# Altium integrated library Diodes - TVS.IntLib: 5379 symbols (part 22 of 122)
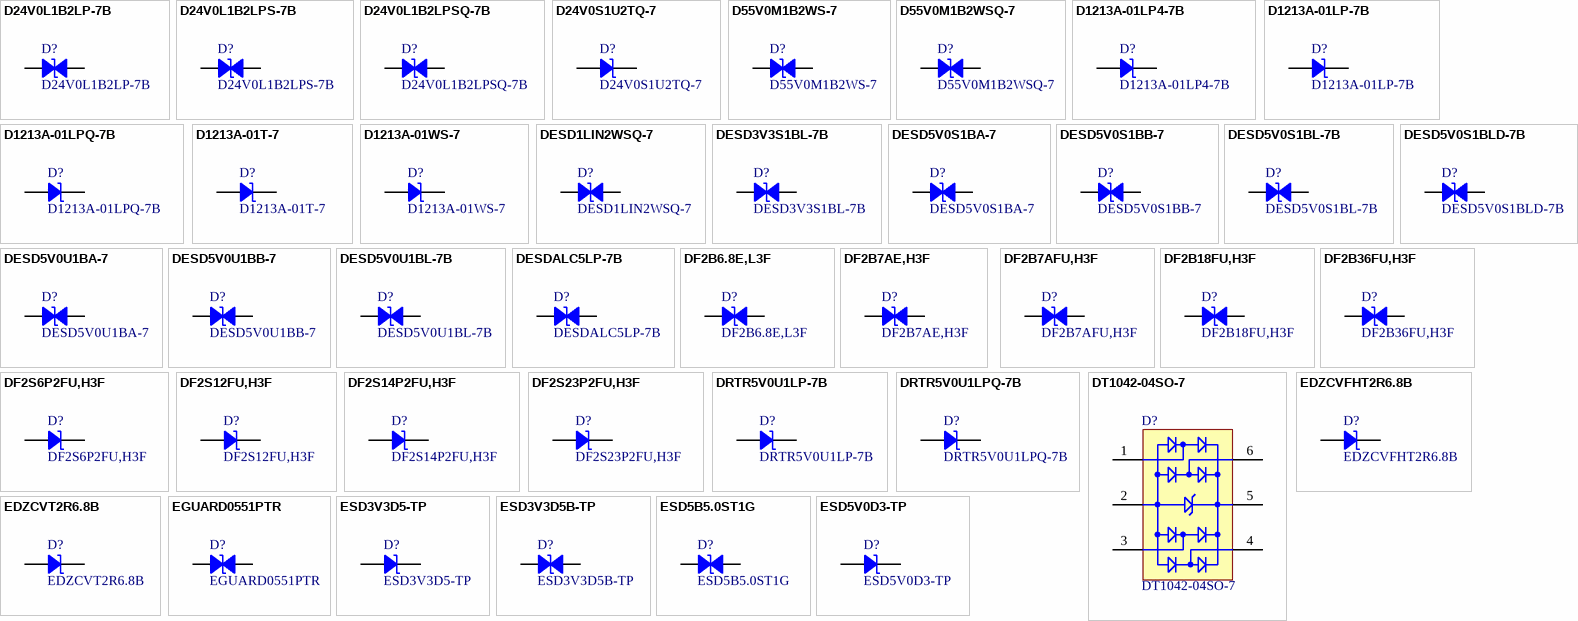
[diagram p155: symbols D24V0L1B2LP-7B to ESD5V0D3-TP]

## D55V0M1B2WSQ-7
designator D?
TVS DIODE PP SOD323; Manufacturer: Diodes Incorporated; Bidirectional Channels: 1; Capacitance @ Frequency: 14pF @ 1MHz; Current - Peak Pulse (10/1000µs): 2A (8/20µs); Power Line Protection: No; Power - Peak Pulse: 200W; Type: Zener; Voltage - Breakdown (Min): 57V; Voltage - Clamping (Max) @ Ipp: 100V; Voltage - Reverse Standoff (Typ): 55V (Max); Part Number: D55V0M1B2WSQ-7; Applications: Automotive, USB; ComponentLink1Description: Datasheet; ComponentLink1URL: https://www.diodes.com/assets/Datasheets/D55V0M1B2WSQ.pdf; ComponentLink2Description: DigiKey Link; ComponentLink2URL: http://digikey.com/product-detail/en/diodes-incorporated/D55V0M1B2WSQ-7/D55V0M1B2WSQ-7DICT-ND/9089791; LastUpdated: 9/2/2020 1:28:29 AM; Lifecycle Status: Active; Minimum Order: 1; Mounting Type: Surface Mount; Operating Temperature: -65°C ~ 150°C (TJ); Package / Case: SC-76, SOD-323; Packaging: TapeAndReel; PartId: 9984; Part Status: Active; Price: 0.11; Series: Automotive, AEC-Q101; Supplier 1: DigiKey; Supplier Part Number 1: D55V0M1B2WSQ-7DICT-ND; Supplier Device Package: SOD-323
footprint SOD323
pins: 1, 2

## D1213A-01LP4-7B
designator D?
TVS DIODE 3.3V 10V DFN1006-2; Manufacturer: Diodes Incorporated; Current - Peak Pulse (10/1000µs): 1A (8/20µs); Power Line Protection: No; Type: Zener; Unidirectional Channels: 1; Voltage - Breakdown (Min): 6V; Voltage - Clamping (Max) @ Ipp: 10V (Typ); Voltage - Reverse Standoff (Typ): 3.3V (Max); Part Number: D1213A-01LP4-7B; Applications: Automotive; ComponentLink1Description: Datasheet; ComponentLink1URL: https://www.diodes.com/assets/Datasheets/D1213A-01LP4.pdf; ComponentLink2Description: DigiKey Link; ComponentLink2URL: http://digikey.com/product-detail/en/diodes-incorporated/D1213A-01LP4-7B/D1213A-01LP4-7BDICT-ND/3340429; Device Package: 0402 (1006 Metric); LastUpdated: 9/2/2020 1:28:45 AM; Lifecycle Status: Active; Minimum Order: 1; Mounting Type: Surface Mount; Operating Temperature: -65°C ~ 150°C (TJ); Package / Case: 0402 (1006 Metric); Packaging: TapeAndReel; PartId: 10369; Part Status: Active; Price: 0.05; Series: Automotive, AEC-Q101; Supplier 1: DigiKey; Supplier Part Number 1: D1213A-01LP4-7BDICT-ND; Supplier Device Package: X2-DFN1006-2
footprint 0402
pins: 1, 2

## D1213A-01LP-7B
designator D?
TVS DIODE 3.3V 10V DFN1006-2; Manufacturer: Diodes Incorporated; Current - Peak Pulse (10/1000µs): 1A (8/20µs); Power Line Protection: No; Type: Zener; Unidirectional Channels: 1; Voltage - Breakdown (Min): 6V; Voltage - Clamping (Max) @ Ipp: 10V (Typ); Voltage - Reverse Standoff (Typ): 3.3V (Max); Part Number: D1213A-01LP-7B; Applications: Automotive; ComponentLink1Description: Datasheet; ComponentLink1URL: https://www.diodes.com/assets/Datasheets/D1213A-01LP.pdf; ComponentLink2Description: DigiKey Link; ComponentLink2URL: http://digikey.com/product-detail/en/diodes-incorporated/D1213A-01LP-7B/D1213A-01LP-7BDICT-ND/3340425; Device Package: 0402 (1006 Metric); LastUpdated: 9/2/2020 1:28:45 AM; Lifecycle Status: Active; Minimum Order: 1; Mounting Type: Surface Mount; Operating Temperature: -65°C ~ 150°C (TJ); Package / Case: 0402 (1006 Metric); Packaging: TapeAndReel; PartId: 10383; Part Status: Active; Price: 0.05; Series: Automotive, AEC-Q101; Supplier 1: DigiKey; Supplier Part Number 1: D1213A-01LP-7BDICT-ND; Supplier Device Package: X1-DFN1006-2
footprint 0402
pins: 1, 2

## D1213A-01LPQ-7B
designator D?
TVS DIODE 3.3V 10V DFN1006-2; Manufacturer: Diodes Incorporated; Capacitance @ Frequency: 0.85pF @ 1MHz; Current - Peak Pulse (10/1000µs): 5A (8/20µs); Power Line Protection: No; Type: Steering (Rail to Rail); Unidirectional Channels: 1; Voltage - Breakdown (Min): 6V; Voltage - Reverse Standoff (Typ): 3.3V (Max); Part Number: D1213A-01LPQ-7B; Applications: Automotive; ComponentLink1Description: Datasheet; ComponentLink1URL: https://www.diodes.com/assets/Datasheets/D1213A-01LPQ.pdf; ComponentLink2Description: DigiKey Link; ComponentLink2URL: http://digikey.com/product-detail/en/diodes-incorporated/D1213A-01LPQ-7B/31-D1213A-01LPQ-7BCT-ND/11643316; LastUpdated: 8/30/2020 9:08:09 PM; Lifecycle Status: Active; Minimum Order: 1; Mounting Type: Surface Mount; Operating Temperature: -55°C ~ 150°C (TJ); Package / Case: 0402 (1006 Metric); Packaging: TapeAndReel; PartId: 11494; Price: 0.07; Series: Automotive, AEC-Q101; Supplier 1: DigiKey; Supplier Part Number 1: 31-D1213A-01LPQ-7BCT-ND; Supplier Device Package: X1-DFN1006-2; Voltage - Clamping (Max) @ Ipp: 10V
footprint 0402
pins: 1, 2

## D1213A-01T-7
designator D?
TVS DIODE 3.3V 10V SOD523; Manufacturer: Diodes Incorporated; Current - Peak Pulse (10/1000µs): 1A (8/20µs); Power Line Protection: No; Type: Zener; Unidirectional Channels: 1; Voltage - Breakdown (Min): 6V; Voltage - Clamping (Max) @ Ipp: 10V (Typ); Voltage - Reverse Standoff (Typ): 3.3V (Max); Part Number: D1213A-01T-7; Applications: Automotive; ComponentLink1Description: Datasheet; ComponentLink1URL: https://www.diodes.com/assets/Datasheets/D1213A-01T.pdf; ComponentLink2Description: DigiKey Link; ComponentLink2URL: http://digikey.com/product-detail/en/diodes-incorporated/D1213A-01T-7/D1213A-01T-7DICT-ND/3340434; LastUpdated: 9/2/2020 1:28:24 AM; Lifecycle Status: Active; Minimum Order: 1; Mounting Type: Surface Mount; Operating Temperature: -65°C ~ 150°C (TJ); Package / Case: SC-79, SOD-523; Packaging: TapeAndReel; PartId: 9777; Part Status: Active; Price: 0.07; Series: Automotive, AEC-Q101; Supplier 1: DigiKey; Supplier Part Number 1: D1213A-01T-7DICT-ND; Supplier Device Package: SOD-523
footprint SOD523F
pins: 1, 2

## D1213A-01WS-7
designator D?
TVS DIODE 3.3V 10V SOD323; Manufacturer: Diodes Incorporated; Current - Peak Pulse (10/1000µs): 1A (8/20µs); Power Line Protection: No; Type: Zener; Unidirectional Channels: 1; Voltage - Breakdown (Min): 6V; Voltage - Clamping (Max) @ Ipp: 10V (Typ); Voltage - Reverse Standoff (Typ): 3.3V (Max); Part Number: D1213A-01WS-7; Applications: Automotive; ComponentLink1Description: Datasheet; ComponentLink1URL: https://www.diodes.com/assets/Datasheets/D1213A-01WS.pdf; ComponentLink2Description: DigiKey Link; ComponentLink2URL: http://digikey.com/product-detail/en/diodes-incorporated/D1213A-01WS-7/D1213A-01WS-7DICT-ND/3340438; LastUpdated: 9/2/2020 1:28:27 AM; Lifecycle Status: Active; Minimum Order: 1; Mounting Type: Surface Mount; Operating Temperature: -65°C ~ 150°C (TJ); Package / Case: SC-76, SOD-323; Packaging: TapeAndReel; PartId: 9879; Part Status: Active; Price: 0.06; Series: Automotive, AEC-Q101; Supplier 1: DigiKey; Supplier Part Number 1: D1213A-01WS-7DICT-ND; Supplier Device Package: SOD-323
footprint SOD323
pins: 1, 2

## DESD1LIN2WSQ-7
designator D?
TVS DIODE 24V 50V SOD323; Manufacturer: Diodes Incorporated; Bidirectional Channels: 1; Capacitance @ Frequency: 13pF @ 1MHz; Current - Peak Pulse (10/1000µs): 3A (8/20µs); Power Line Protection: No; Power - Peak Pulse: 160W; Type: Zener; Voltage - Breakdown (Min): 25.4V; Voltage - Reverse Standoff (Typ): 24V (Max); Part Number: DESD1LIN2WSQ-7; Applications: Automotive; ComponentLink1Description: Datasheet; ComponentLink1URL: https://www.diodes.com/assets/Datasheets/DESD1LIN2WSQ.pdf; ComponentLink2Description: DigiKey Link; ComponentLink2URL: http://digikey.com/product-detail/en/diodes-incorporated/DESD1LIN2WSQ-7/DESD1LIN2WSQ-7DICT-ND/5080362; LastUpdated: 8/30/2020 9:07:52 PM; Lifecycle Status: Active; Minimum Order: 1; Mounting Type: Surface Mount; Operating Temperature: -65°C ~ 150°C (TJ); Package / Case: SC-76, SOD-323; Packaging: CutTape; PartId: 11492; Price: 0.45; Series: Automotive, AEC-Q101; Supplier 1: DigiKey; Supplier Part Number 1: DESD1LIN2WSQ-7DICT-ND; Supplier Device Package: SOD-323; Voltage - Clamping (Max) @ Ipp: 50V
footprint SOD323
pins: 1, 2

## DESD3V3S1BL-7B
designator D?
TVS DIODE 3.3V 7V DFN1006-2; Manufacturer: Diodes Incorporated; Bidirectional Channels: 1; Capacitance @ Frequency: 10pF @ 1MHz; Current - Peak Pulse (10/1000µs): 5A (8/20µs); Power Line Protection: No; Power - Peak Pulse: 35W; Type: Zener; Voltage - Breakdown (Min): 3.8V; Voltage - Reverse Standoff (Typ): 3.3V (Max); Part Number: DESD3V3S1BL-7B; Applications: General Purpose; ComponentLink1Description: Datasheet; ComponentLink1URL: https://www.diodes.com/assets/Datasheets/DESD3V3S1BL.pdf; ComponentLink2Description: DigiKey Link; ComponentLink2URL: http://digikey.com/product-detail/en/diodes-incorporated/DESD3V3S1BL-7B/DESD3V3S1BL-7BDICT-ND/4567799; Device Package: 0402 (1006 Metric); LastUpdated: 9/2/2020 1:28:49 AM; Lifecycle Status: Active; Minimum Order: 1; Mounting Type: Surface Mount; Operating Temperature: -65°C ~ 150°C (TJ); Package / Case: 0402 (1006 Metric); Packaging: TapeAndReel; PartId: 10451; Part Status: Active; Price: 0.04; Series: -; Supplier 1: DigiKey; Supplier Part Number 1: DESD3V3S1BL-7BDICT-ND; Supplier Device Package: X1-DFN1006-2; Voltage - Clamping (Max) @ Ipp: 7V
footprint 0402
pins: 1, 2

## DESD5V0S1BA-7
designator D?
TVS DIODE 5V 14V SOD323; Manufacturer: Diodes Incorporated; Bidirectional Channels: 1; Capacitance @ Frequency: 35pF @ 1MHz; Current - Peak Pulse (10/1000µs): 12A (8/20µs); Power Line Protection: No; Power - Peak Pulse: 130W; Type: Zener; Voltage - Breakdown (Min): 5.5V; Voltage - Reverse Standoff (Typ): 5V (Max); Part Number: DESD5V0S1BA-7; Applications: General Purpose; ComponentLink1Description: Datasheet; ComponentLink1URL: https://www.diodes.com/assets/Datasheets/ds31275.pdf; ComponentLink2Description: DigiKey Link; ComponentLink2URL: http://digikey.com/product-detail/en/diodes-incorporated/DESD5V0S1BA-7/DESD5V0S1BA-7DICT-ND/3451525; LastUpdated: 9/2/2020 1:28:29 AM; Lifecycle Status: Active; Minimum Order: 1; Mounting Type: Surface Mount; Operating Temperature: -65°C ~ 150°C (TJ); Package / Case: SC-76, SOD-323; Packaging: TapeAndReel; PartId: 9938; Part Status: Active; Price: 0.07; Series: -; Supplier 1: DigiKey; Supplier Part Number 1: DESD5V0S1BA-7DICT-ND; Supplier Device Package: SOD-323; Voltage - Clamping (Max) @ Ipp: 14V
footprint SOD323
pins: 1, 2

## DESD5V0S1BB-7
designator D?
TVS DIODE 5V 14V SOD523; Manufacturer: Diodes Incorporated; Bidirectional Channels: 1; Capacitance @ Frequency: 35pF @ 1MHz; Current - Peak Pulse (10/1000µs): 12A (8/20µs); Power Line Protection: No; Power - Peak Pulse: 130W; Type: Zener; Voltage - Breakdown (Min): 5.5V; Voltage - Reverse Standoff (Typ): 5V (Max); Part Number: DESD5V0S1BB-7; Applications: General Purpose; ComponentLink1Description: Datasheet; ComponentLink1URL: https://www.diodes.com/assets/Datasheets/DESD5V0S1BB.pdf; ComponentLink2Description: DigiKey Link; ComponentLink2URL: http://digikey.com/product-detail/en/diodes-incorporated/DESD5V0S1BB-7/31-DESD5V0S1BB-7DKR-ND/11643302; LastUpdated: 8/30/2020 9:07:49 PM; Lifecycle Status: Active; Minimum Order: 0; Mounting Type: Surface Mount; Package / Case: SC-79, SOD-523; PartId: 11488; Price: 0; Supplier 1: DigiKey; Supplier Part Number 1: 31-DESD5V0S1BB-7DKR-ND; Supplier Device Package: SOD-523; Voltage - Clamping (Max) @ Ipp: 14V
footprint SOD523F
pins: 1, 2

## DESD5V0S1BL-7B
designator D?
TVS DIODE 5V 14V DFN1006-2; Manufacturer: Diodes Incorporated; Bidirectional Channels: 1; Capacitance @ Frequency: 35pF @ 1MHz; Current - Peak Pulse (10/1000µs): 12A (8/20µs); Power Line Protection: No; Power - Peak Pulse: 130W; Type: Zener; Voltage - Breakdown (Min): 5.5V; Voltage - Reverse Standoff (Typ): 5V (Max); Part Number: DESD5V0S1BL-7B; Applications: General Purpose; ComponentLink1Description: Datasheet; ComponentLink1URL: https://www.diodes.com/assets/Datasheets/ds31434.pdf; ComponentLink2Description: DigiKey Link; ComponentLink2URL: http://digikey.com/product-detail/en/diodes-incorporated/DESD5V0S1BL-7B/DESD5V0S1BL-7BDICT-ND/3451534; Device Package: 0402 (1006 Metric); LastUpdated: 9/2/2020 1:28:49 AM; Lifecycle Status: Active; Minimum Order: 1; Mounting Type: Surface Mount; Operating Temperature: -65°C ~ 150°C (TJ); Package / Case: 0402 (1006 Metric); Packaging: TapeAndReel; PartId: 10469; Part Status: Active; Price: 0.05; Series: -; Supplier 1: DigiKey; Supplier Part Number 1: DESD5V0S1BL-7BDICT-ND; Supplier Device Package: X1-DFN1006-2; Voltage - Clamping (Max) @ Ipp: 14V
footprint 0402
pins: 1, 2

## DESD5V0S1BLD-7B
designator D?
TVS DIODE 5V 14V DFN1006-2; Manufacturer: Diodes Incorporated; Bidirectional Channels: 1; Capacitance @ Frequency: 35pF @ 1MHz; Current - Peak Pulse (10/1000µs): 12A (8/20µs); Power Line Protection: No; Power - Peak Pulse: 130W; Type: Zener; Voltage - Breakdown (Min): 5.5V; Voltage - Reverse Standoff (Typ): 5V (Max); Part Number: DESD5V0S1BLD-7B; Applications: General Purpose; ComponentLink1Description: Datasheet; ComponentLink1URL: https://www.diodes.com/assets/Datasheets/DESD5V0S1BLD.pdf; ComponentLink2Description: DigiKey Link; ComponentLink2URL: http://digikey.com/product-detail/en/diodes-incorporated/DESD5V0S1BLD-7B/DESD5V0S1BLD-7BDICT-ND/3451541; Device Package: 0402 (1006 Metric); LastUpdated: 9/2/2020 1:28:49 AM; Lifecycle Status: Active; Minimum Order: 1; Mounting Type: Surface Mount; Operating Temperature: -65°C ~ 150°C (TJ); Package / Case: 0402 (1006 Metric); Packaging: TapeAndReel; PartId: 10464; Part Status: Active; Price: 0.06; Series: -; Supplier 1: DigiKey; Supplier Part Number 1: DESD5V0S1BLD-7BDICT-ND; Supplier Device Package: X2-DFN1006-2; Voltage - Clamping (Max) @ Ipp: 14V
footprint 0402
pins: 1, 2

## DESD5V0U1BA-7
designator D?
TVS DIODE 5V 7.2V SOD323; Manufacturer: Diodes Incorporated; Bidirectional Channels: 1; Capacitance @ Frequency: 2.9pF @ 1MHz; Current - Peak Pulse (10/1000µs): 3A (8/20µs); Power Line Protection: No; Type: Zener; Voltage - Breakdown (Min): 5.5V; Voltage - Clamping (Max) @ Ipp: 7.2V (Typ); Voltage - Reverse Standoff (Typ): 5V (Max); Part Number: DESD5V0U1BA-7; Applications: General Purpose; ComponentLink1Description: Datasheet; ComponentLink1URL: https://www.diodes.com/assets/Datasheets/DESD5V0U1BA.pdf; ComponentLink2Description: DigiKey Link; ComponentLink2URL: http://digikey.com/product-detail/en/diodes-incorporated/DESD5V0U1BA-7/DESD5V0U1BA-7DICT-ND/5371911; LastUpdated: 9/2/2020 1:28:29 AM; Lifecycle Status: Active; Minimum Order: 1; Mounting Type: Surface Mount; Operating Temperature: -65°C ~ 150°C (TJ); Package / Case: SC-76, SOD-323; Packaging: TapeAndReel; PartId: 9987; Part Status: Active; Price: 0.05; Series: -; Supplier 1: DigiKey; Supplier Part Number 1: DESD5V0U1BA-7DICT-ND; Supplier Device Package: SOD-323
footprint SOD323
pins: 1, 2

## DESD5V0U1BB-7
designator D?
TVS DIODE 5V 7.2V SOD523; Manufacturer: Diodes Incorporated; Bidirectional Channels: 1; Capacitance @ Frequency: 2.9pF @ 1MHz; Current - Peak Pulse (10/1000µs): 3A (8/20µs); Power Line Protection: No; Type: Zener; Voltage - Breakdown (Min): 5.5V; Voltage - Clamping (Max) @ Ipp: 7.2V (Typ); Voltage - Reverse Standoff (Typ): 5V (Max); Part Number: DESD5V0U1BB-7; Applications: General Purpose; ComponentLink1Description: Datasheet; ComponentLink1URL: https://www.diodes.com/assets/Datasheets/DESD5V0U1BB.pdf; ComponentLink2Description: DigiKey Link; ComponentLink2URL: http://digikey.com/product-detail/en/diodes-incorporated/DESD5V0U1BB-7/31-DESD5V0U1BB-7CT-ND/11643298; LastUpdated: 8/30/2020 9:07:49 PM; Lifecycle Status: Active; Minimum Order: 1; Mounting Type: Surface Mount; Operating Temperature: -65°C ~ 150°C (TJ); Package / Case: SC-79, SOD-523; Packaging: CutTape; PartId: 11489; Price: 0.25; Supplier 1: DigiKey; Supplier Part Number 1: 31-DESD5V0U1BB-7CT-ND; Supplier Device Package: SOD-523
footprint SOD523F
pins: 1, 2

## DESD5V0U1BL-7B
designator D?
TVS DIODE 5V 7.2V DFN1006-2; Manufacturer: Diodes Incorporated; Bidirectional Channels: 1; Capacitance @ Frequency: 2.9pF @ 1MHz; Current - Peak Pulse (10/1000µs): 3A (8/20µs); Power Line Protection: No; Type: Zener; Voltage - Breakdown (Min): 5.5V; Voltage - Clamping (Max) @ Ipp: 7.2V (Typ); Voltage - Reverse Standoff (Typ): 5V (Max); Part Number: DESD5V0U1BL-7B; Applications: General Purpose; ComponentLink1Description: Datasheet; ComponentLink1URL: https://www.diodes.com/assets/Datasheets/DESD5V0U1BL.pdf; ComponentLink2Description: DigiKey Link; ComponentLink2URL: http://digikey.com/product-detail/en/diodes-incorporated/DESD5V0U1BL-7B/31-DESD5V0U1BL-7BCT-ND/11643328; LastUpdated: 8/30/2020 9:08:11 PM; Lifecycle Status: Active; Minimum Order: 1; Mounting Type: Surface Mount; Operating Temperature: -65°C ~ 150°C (TJ); Package / Case: 0402 (1006 Metric); Packaging: CutTape; PartId: 11498; Price: 0.25; Supplier 1: DigiKey; Supplier Part Number 1: 31-DESD5V0U1BL-7BCT-ND; Supplier Device Package: X1-DFN1006-2
footprint 0402
pins: 1, 2

## DESDALC5LP-7B
designator D?
TVS DIODE 3V 16.7V DFN1006-2; Manufacturer: Diodes Incorporated; Bidirectional Channels: 1; Capacitance @ Frequency: 26pF @ 1MHz; Current - Peak Pulse (10/1000µs): 9A (8/20µs); Power Line Protection: No; Power - Peak Pulse: 150W; Type: Zener; Voltage - Breakdown (Min): 5.8V; Part Number: DESDALC5LP-7B; Applications: General Purpose; ComponentLink1Description: Datasheet; ComponentLink1URL: https://www.diodes.com/assets/Datasheets/DESDALC5LP.pdf; ComponentLink2Description: DigiKey Link; ComponentLink2URL: http://digikey.com/product-detail/en/diodes-incorporated/DESDALC5LP-7B/DESDALC5LP-7BDICT-ND/4878280; Device Package: 0402 (1006 Metric); LastUpdated: 9/2/2020 1:28:48 AM; Lifecycle Status: Active; Minimum Order: 1; Mounting Type: Surface Mount; Operating Temperature: -65°C ~ 150°C (TJ); Package / Case: 0402 (1006 Metric); Packaging: TapeAndReel; PartId: 10426; Part Status: Active; Price: 0.04; Series: -; Supplier 1: DigiKey; Supplier Part Number 1: DESDALC5LP-7BDICT-ND; Supplier Device Package: X1-DFN1006-2; Voltage - Clamping (Max) @ Ipp: 16.7V; Voltage - Reverse Standoff (Typ): 3V
footprint 0402
pins: 1, 2

## DF2B6.8E,L3F
designator D?
TVS DIODE 5VWM ESC; Manufacturer: Toshiba Semiconductor and Storage; Bidirectional Channels: 1; Capacitance @ Frequency: 15pF @ 1MHz; Power Line Protection: No; Type: Zener; Voltage - Breakdown (Min): 5.8V; Voltage - Reverse Standoff (Typ): 5V (Max); Part Number: DF2B6.8E,L3F; Applications: General Purpose; ComponentLink1Description: Datasheet; ComponentLink1URL: https://toshiba.semicon-storage.com/info/docget.jsp?did=4669&prodName=DF2B6.8E; ComponentLink2Description: DigiKey Link; ComponentLink2URL: http://digikey.com/product-detail/en/toshiba-semiconductor-and-storage/DF2B6.8EL3F/DF2B6.8EL3FCT-ND/4780939; LastUpdated: 9/2/2020 1:28:25 AM; Lifecycle Status: Active; Minimum Order: 1; Mounting Type: Surface Mount; Package / Case: SC-79, SOD-523; Packaging: TapeAndReel; PartId: 9834; Part Status: Active; Price: 0.03; Series: -; Supplier 1: DigiKey; Supplier Part Number 1: DF2B6.8EL3FCT-ND; Supplier Device Package: ESC
footprint SOD523F
pins: 1, 2

## DF2B7AE,H3F
designator D?
TVS DIODE 5.5V 20V ESC; Manufacturer: Toshiba Semiconductor and Storage; Bidirectional Channels: 1; Capacitance @ Frequency: 8.5pF @ 1MHz; Current - Peak Pulse (10/1000µs): 4A (8/20µs); Power Line Protection: No; Power - Peak Pulse: 80W; Type: Zener; Voltage - Breakdown (Min): 5.8V; Voltage - Reverse Standoff (Typ): 5.5V (Max); Part Number: DF2B7AE,H3F; ComponentLink1Description: Datasheet; ComponentLink1URL: https://toshiba.semicon-storage.com/info/docget.jsp?did=55583&prodName=DF2B7AE; ComponentLink2Description: DigiKey Link; ComponentLink2URL: http://digikey.com/product-detail/en/toshiba-semiconductor-and-storage/DF2B7AEH3F/DF2B7AEH3FCT-ND/7394083; LastUpdated: 9/2/2020 1:28:25 AM; Lifecycle Status: Active; Minimum Order: 1; Mounting Type: Surface Mount; Operating Temperature: 150°C (TJ); Package / Case: SC-79, SOD-523; Packaging: TapeAndReel; PartId: 9812; Part Status: Active; Price: 0.04; Series: -; Supplier 1: DigiKey; Supplier Part Number 1: DF2B7AEH3FCT-ND; Supplier Device Package: ESC; Voltage - Clamping (Max) @ Ipp: 20V
footprint SOD523F
pins: 1, 2

## DF2B7AFU,H3F
designator D?
BIDIRECTIONAL ESD DIODE VRWM=+/-; Manufacturer: Toshiba Semiconductor and Storage; Bidirectional Channels: 1; Capacitance @ Frequency: 8.5pF @ 1MHz; Current - Peak Pulse (10/1000µs): 4A (8/20µs); Power Line Protection: No; Power - Peak Pulse: 80W; Type: Zener; Voltage - Breakdown (Min): 5.8V; Voltage - Clamping (Max) @ Ipp: 20V; Voltage - Reverse Standoff (Typ): 5.5V (Max); Part Number: DF2B7AFU,H3F; Applications: General Purpose; ComponentLink1Description: Datasheet; ComponentLink1URL: https://toshiba.semicon-storage.com/info/docget.jsp?did=55588&prodName=DF2B7AFU; ComponentLink2Description: DigiKey Link; ComponentLink2URL: http://digikey.com/product-detail/en/toshiba-semiconductor-and-storage/DF2B7AFUH3F/DF2B7AFUH3FCT-ND/10259959; LastUpdated: 9/2/2020 1:28:29 AM; Lifecycle Status: Active; Minimum Order: 1; Mounting Type: Surface Mount; Operating Temperature: 150°C (TJ); Package / Case: SC-76, SOD-323; Packaging: TapeAndReel; PartId: 9929; Part Status: Active; Price: 0.04; Series: -; Supplier 1: DigiKey; Supplier Part Number 1: DF2B7AFUH3FCT-ND; Supplier Device Package: USC
footprint SOD323
pins: 1, 2

## DF2B18FU,H3F
designator D?
TVS DIODE 12V 33V USC; Manufacturer: Toshiba Semiconductor and Storage; Bidirectional Channels: 1; Capacitance @ Frequency: 9pF @ 1MHz; Current - Peak Pulse (10/1000µs): 2.5A (8/20µs); Power Line Protection: No; Power - Peak Pulse: 80W; Type: Zener; Voltage - Breakdown (Min): 16.2V; Part Number: DF2B18FU,H3F; Applications: Automotive; ComponentLink1Description: Datasheet; ComponentLink1URL: https://toshiba.semicon-storage.com/info/docget.jsp?did=29926&prodName=DF2B18FU; ComponentLink2Description: DigiKey Link; ComponentLink2URL: http://digikey.com/product-detail/en/toshiba-semiconductor-and-storage/DF2B18FUH3F/DF2B18FUH3FCT-ND/5810238; LastUpdated: 9/2/2020 1:28:29 AM; Lifecycle Status: Active; Minimum Order: 1; Mounting Type: Surface Mount; Package / Case: SC-76, SOD-323; Packaging: TapeAndReel; PartId: 9964; Part Status: Active; Price: 0.06; Series: -; Supplier 1: DigiKey; Supplier Part Number 1: DF2B18FUH3FCT-ND; Supplier Device Package: USC; Voltage - Clamping (Max) @ Ipp: 33V; Voltage - Reverse Standoff (Typ): 12V
footprint SOD323
pins: 1, 2

## DF2B36FU,H3F
designator D?
TVS DIODE 28V 40V USC; Manufacturer: Toshiba Semiconductor and Storage; Bidirectional Channels: 1; Capacitance @ Frequency: 6.5pF @ 1MHz; Current - Peak Pulse (10/1000µs): 1A (8/20µs); Power Line Protection: No; Power - Peak Pulse: 150W; Type: Zener; Voltage - Breakdown (Min): 32V; Part Number: DF2B36FU,H3F; Applications: Automotive; ComponentLink1Description: Datasheet; ComponentLink1URL: https://toshiba.semicon-storage.com/info/docget.jsp?did=36248&prodName=DF2B36FU; ComponentLink2Description: DigiKey Link; ComponentLink2URL: http://digikey.com/product-detail/en/toshiba-semiconductor-and-storage/DF2B36FUH3F/DF2B36FUH3FCT-ND/5977739; LastUpdated: 9/2/2020 1:28:29 AM; Lifecycle Status: Active; Minimum Order: 1; Mounting Type: Surface Mount; Package / Case: SC-76, SOD-323; Packaging: TapeAndReel; PartId: 9928; Part Status: Active; Price: 0.06; Series: -; Supplier 1: DigiKey; Supplier Part Number 1: DF2B36FUH3FCT-ND; Supplier Device Package: USC; Voltage - Clamping (Max) @ Ipp: 40V; Voltage - Reverse Standoff (Typ): 28V
footprint SOD323
pins: 1, 2

## DF2S6P2FU,H3F
designator D?
UNI-DIRECTIONAL ESD PROTECTION D; Manufacturer: Toshiba Semiconductor and Storage; Capacitance @ Frequency: 600pF @ 1MHz; Current - Peak Pulse (10/1000µs): 80A (8/20µs); Power Line Protection: No; Power - Peak Pulse: 1900W (1.9kW); Type: Zener; Unidirectional Channels: 1; Voltage - Breakdown (Min): 5.6V; Voltage - Clamping (Max) @ Ipp: 23.7V; Voltage - Reverse Standoff (Typ): 5.5V (Max); Part Number: DF2S6P2FU,H3F; Applications: General Purpose; ComponentLink1Description: Datasheet; ComponentLink1URL: https://toshiba.semicon-storage.com/info/docget.jsp?did=59087&prodName=DF2S6P2FU; ComponentLink2Description: DigiKey Link; ComponentLink2URL: http://digikey.com/product-detail/en/toshiba-semiconductor-and-storage/DF2S6P2FUH3F/DF2S6P2FUH3FCT-ND/10131125; LastUpdated: 9/2/2020 1:28:26 AM; Lifecycle Status: Active; Minimum Order: 1; Mounting Type: Surface Mount; Operating Temperature: 150°C (TJ); Package / Case: SC-76, SOD-323; Packaging: TapeAndReel; PartId: 9848; Part Status: Active; Price: 0.08; Series: -; Supplier 1: DigiKey; Supplier Part Number 1: DF2S6P2FUH3FCT-ND; Supplier Device Package: USC
footprint SOD323
pins: 1, 2

## DF2S12FU,H3F
designator D?
TVS DIODE 9V USC; Manufacturer: Toshiba Semiconductor and Storage; Capacitance @ Frequency: 15pF @ 1MHz; Power Line Protection: No; Type: Zener; Unidirectional Channels: 1; Voltage - Breakdown (Min): 11.4V; Part Number: DF2S12FU,H3F; Applications: General Purpose; ComponentLink1Description: Datasheet; ComponentLink1URL: https://toshiba.semicon-storage.com/info/docget.jsp?did=3402&prodName=DF2S12FU; ComponentLink2Description: DigiKey Link; ComponentLink2URL: http://digikey.com/product-detail/en/toshiba-semiconductor-and-storage/DF2S12FUH3F/DF2S12FUH3FCT-ND/4304268; LastUpdated: 9/2/2020 1:28:27 AM; Lifecycle Status: Active; Minimum Order: 1; Mounting Type: Surface Mount; Package / Case: SC-76, SOD-323; Packaging: TapeAndReel; PartId: 9885; Part Status: Active; Price: 0.03; Series: -; Supplier 1: DigiKey; Supplier Part Number 1: DF2S12FUH3FCT-ND; Supplier Device Package: USC; Voltage - Reverse Standoff (Typ): 9V
footprint SOD323
pins: 1, 2

## DF2S14P2FU,H3F
designator D?
ESD PROTECTION DIODE (STANDARD T; Manufacturer: Toshiba Semiconductor and Storage; Capacitance @ Frequency: 270pF @ 1MHz; Current - Peak Pulse (10/1000µs): 50A (8/20µs); Power Line Protection: No; Power - Peak Pulse: 1.6kW; Type: Zener; Unidirectional Channels: 1; Voltage - Breakdown (Min): 12.9V; Voltage - Clamping (Max) @ Ipp: 32V; Voltage - Reverse Standoff (Typ): 12.6V (Max); Part Number: DF2S14P2FU,H3F; Applications: General Purpose; ComponentLink1Description: Datasheet; ComponentLink1URL: https://toshiba.semicon-storage.com/info/docget.jsp?did=59082&prodName=DF2S14P2FU; ComponentLink2Description: DigiKey Link; ComponentLink2URL: http://digikey.com/product-detail/en/toshiba-semiconductor-and-storage/DF2S14P2FUH3F/264-DF2S14P2FUH3FCT-ND/10663173; LastUpdated: 9/2/2020 1:28:26 AM; Lifecycle Status: Active; Minimum Order: 1; Mounting Type: Surface Mount; Operating Temperature: 150°C (TJ); Package / Case: SC-76, SOD-323; Packaging: Unknown; PartId: 9847; Part Status: Active; Price: 0.10; Series: -; Supplier 1: DigiKey; Supplier Part Number 1: 264-DF2S14P2FUH3FCT-ND; Supplier Device Package: USC
footprint SOD323
pins: 1, 2

## DF2S23P2FU,H3F
designator D?
UNI-DIRECTIONAL ESD PROTECTION D; Manufacturer: Toshiba Semiconductor and Storage; Capacitance @ Frequency: 160pF @ 1MHz; Current - Peak Pulse (10/1000µs): 14A (8/20µs); Power Line Protection: No; Power - Peak Pulse: 500W; Type: Zener; Unidirectional Channels: 1; Voltage - Breakdown (Min): 21.5V; Voltage - Clamping (Max) @ Ipp: 27.3V (Typ); Voltage - Reverse Standoff (Typ): 21V (Max); Part Number: DF2S23P2FU,H3F; Applications: General Purpose; ComponentLink1Description: Datasheet; ComponentLink1URL: https://toshiba.semicon-storage.com/info/docget.jsp?did=59084&prodName=DF2S23P2FU; ComponentLink2Description: DigiKey Link; ComponentLink2URL: http://digikey.com/product-detail/en/toshiba-semiconductor-and-storage/DF2S23P2FUH3F/DF2S23P2FUH3FCT-ND/10131126; LastUpdated: 9/2/2020 1:28:27 AM; Lifecycle Status: Active; Minimum Order: 1; Mounting Type: Surface Mount; Operating Temperature: 150°C (TJ); Package / Case: SC-76, SOD-323; Packaging: TapeAndReel; PartId: 9898; Part Status: Active; Price: 0.08; Series: -; Supplier 1: DigiKey; Supplier Part Number 1: DF2S23P2FUH3FCT-ND; Supplier Device Package: USC
footprint SOD323
pins: 1, 2

## DRTR5V0U1LP-7B
designator D?
TVS DIODE 5.5V 10V DFN1006-2; Manufacturer: Diodes Incorporated; Capacitance @ Frequency: 1pF @ 1MHz; Current - Peak Pulse (10/1000µs): 5A (8/20µs); Power Line Protection: No; Type: Zener; Unidirectional Channels: 1; Voltage - Breakdown (Min): 6V; Voltage - Clamping (Max) @ Ipp: 10V (Typ); Voltage - Reverse Standoff (Typ): 5.5V (Max); Part Number: DRTR5V0U1LP-7B; Applications: Automotive; ComponentLink1Description: Datasheet; ComponentLink1URL: https://www.diodes.com/assets/Datasheets/DRTR5V0U1LP.pdf; ComponentLink2Description: DigiKey Link; ComponentLink2URL: http://digikey.com/product-detail/en/diodes-incorporated/DRTR5V0U1LP-7B/DRTR5V0U1LP-7BDICT-ND/8545987; Device Package: 0402 (1006 Metric); LastUpdated: 9/2/2020 1:28:45 AM; Lifecycle Status: Active; Minimum Order: 1; Mounting Type: Surface Mount; Operating Temperature: -65°C ~ 150°C (TJ); Package / Case: 0402 (1006 Metric); Packaging: TapeAndReel; PartId: 10387; Part Status: Active; Price: 0.06; Series: Automotive, AEC-Q101; Supplier 1: DigiKey; Supplier Part Number 1: DRTR5V0U1LP-7BDICT-ND; Supplier Device Package: X1-DFN1006-2
footprint 0402
pins: 1, 2

## DRTR5V0U1LPQ-7B
designator D?
DATALINE PROTECT PP X1-DFN1006-2; Manufacturer: Diodes Incorporated; Capacitance @ Frequency: 1pF @ 1MHz; Current - Peak Pulse (10/1000µs): 5A (8/20µs); Power Line Protection: No; Type: Zener; Unidirectional Channels: 1; Voltage - Breakdown (Min): 6V; Voltage - Clamping (Max) @ Ipp: 10V; Voltage - Reverse Standoff (Typ): 5.5V (Max); Part Number: DRTR5V0U1LPQ-7B; Applications: Automotive; ComponentLink1Description: Datasheet; ComponentLink1URL: https://www.diodes.com/assets/Datasheets/DRTR5V0U1LPQ.pdf; ComponentLink2Description: DigiKey Link; ComponentLink2URL: http://digikey.com/product-detail/en/diodes-incorporated/DRTR5V0U1LPQ-7B/31-DRTR5V0U1LPQ-7BCT-ND/10674185; Device Package: 0402 (1006 Metric); LastUpdated: 9/2/2020 1:28:45 AM; Lifecycle Status: Active; Minimum Order: 1; Mounting Type: Surface Mount; Operating Temperature: -55°C ~ 150°C (TJ); Package / Case: 0402 (1006 Metric); Packaging: Unknown; PartId: 10375; Part Status: Active; Price: 0.04; Series: Automotive, AEC-Q101; Supplier 1: DigiKey; Supplier Part Number 1: 31-DRTR5V0U1LPQ-7BCT-ND; Supplier Device Package: X1-DFN1006-2
footprint 0402
pins: 1, 2

## DT1042-04SO-7
designator D?
TVS DIODE 5V 9V SOT26; Manufacturer: Diodes Incorporated; Current - Peak Pulse (10/1000µs): 6A (8/20µs); Power Line Protection: Yes; Power - Peak Pulse: 55W; Type: Steering (Rail to Rail); Unidirectional Channels: 4; Voltage - Breakdown (Min): 6.2V; Voltage - Reverse Standoff (Typ): 5V (Max); Part Number: DT1042-04SO-7; Applications: HDMI; ComponentLink1Description: Datasheet; ComponentLink1URL: https://www.diodes.com/assets/Datasheets/DT1042-04SO.pdf; ComponentLink2Description: DigiKey Link; ComponentLink2URL: http://digikey.com/product-detail/en/diodes-incorporated/DT1042-04SO-7/DT1042-04SO-7DICT-ND/4457893; Device Package: SOT-23-6; LastUpdated: 3/30/2020 4:25:53 PM; Lifecycle Status: Active; Minimum Order: 1; Mounting Type: Surface Mount; Operating Temperature: -55°C ~ 85°C (TA); Package / Case: SOT-23-6; Packaging: TapeAndReel; PartId: 10505; Part Status: Active; Price: 0.08; Series: -; Supplier 1: DigiKey; Supplier Part Number 1: DT1042-04SO-7DICT-ND; Supplier Device Package: SOT-26; Voltage - Clamping (Max) @ Ipp: 9V
footprint DIODES SOT-23-6 W6
pins: 1 I/O 1, 2 GND, 3 I/O 2, 4 I/O 3, 5 VBUS, 6 I/O 4

## EDZCVFHT2R6.8B
designator D?
EDZCVFH6.8B IS A TRANSIENT VOLTA; Manufacturer: Rohm Semiconductor; Capacitance @ Frequency: 3pF @ 1MHz; Power Line Protection: No; Type: Zener; Unidirectional Channels: 1; Voltage - Breakdown (Min): 6.65V; Voltage - Reverse Standoff (Typ): 5V (Max); Part Number: EDZCVFHT2R6.8B; Applications: General Purpose; ComponentLink1Description: Datasheet; ComponentLink1URL: https://www.rohm.com/datasheet/EDZCVFH6.8B/edzcvfht2r6.8b-e; ComponentLink2Description: DigiKey Link; ComponentLink2URL: http://digikey.com/product-detail/en/rohm-semiconductor/EDZCVFHT2R6.8B/EDZCVFHT2R6.8BCT-ND/9697546; LastUpdated: 9/2/2020 1:28:24 AM; Lifecycle Status: Active; Minimum Order: 1; Mounting Type: Surface Mount; Operating Temperature: 150°C (TJ); Package / Case: SC-79, SOD-523; Packaging: TapeAndReel; PartId: 9764; Part Status: Active; Price: 0.07; Series: Automotive, AEC-Q101; Supplier 1: DigiKey; Supplier Part Number 1: EDZCVFHT2R6.8BCT-ND; Supplier Device Package: EMD2
footprint SOD523F
pins: 1, 2

## EDZCVT2R6.8B
designator D?
TRANSIENT VOLTAGE SUPPRESSOR - E; Manufacturer: Rohm Semiconductor; Capacitance @ Frequency: 3pF @ 1MHz; Power Line Protection: No; Type: Zener; Unidirectional Channels: 1; Voltage - Breakdown (Min): 6.65V; Voltage - Reverse Standoff (Typ): 5V (Max); Part Number: EDZCVT2R6.8B; Applications: General Purpose; ComponentLink1Description: Datasheet; ComponentLink1URL: https://www.rohm.com/datasheet/EMD3FHA/emd3fhat2r-e; ComponentLink2Description: DigiKey Link; ComponentLink2URL: http://digikey.com/product-detail/en/rohm-semiconductor/EDZCVT2R6.8B/846-EDZCVT2R6.8BCT-ND/10709680; LastUpdated: 9/2/2020 1:28:23 AM; Lifecycle Status: Active; Minimum Order: 1; Mounting Type: Surface Mount; Operating Temperature: 150°C (TJ); Package / Case: SC-79, SOD-523; Packaging: Unknown; PartId: 9724; Part Status: Active; Price: 0.03; Series: -; Supplier 1: DigiKey; Supplier Part Number 1: 846-EDZCVT2R6.8BCT-ND; Supplier Device Package: EMD2
footprint SOD523F
pins: 1, 2

## EGUARD0551PTR
designator D?
DIODE ESD ULTRA LOW CAPACITANCE; Manufacturer: SMC Diode Solutions; Bidirectional Channels: 1; Capacitance @ Frequency: 0.5pF @ 1MHz; Power - Peak Pulse: 60W; Voltage - Breakdown (Min): 6V; Voltage - Clamping (Max) @ Ipp: 15V; Voltage - Reverse Standoff (Typ): 5V; Part Number: EGUARD0551PTR; ComponentLink1Description: Datasheet; ComponentLink1URL: http://www.smc-diodes.com/propdf/eGuard0551P%20N2162%20REV.-.pdf; ComponentLink2Description: DigiKey Link; ComponentLink2URL: http://digikey.com/product-detail/en/smc-diode-solutions/EGUARD0551PTR/1655-2270-1-ND/10312983; LastUpdated: 8/30/2020 9:08:11 PM; Lifecycle Status: Active; Minimum Order: 1; Mounting Type: Surface Mount; Package / Case: 0402 (1006 Metric); Packaging: TapeAndReel; PartId: 11499; Part Status: Active; Price: 0.09; Series: -; Supplier 1: DigiKey; Supplier Part Number 1: 1655-2270-1-ND; Supplier Device Package: WBFBP-02C-A
footprint 0402
pins: 1, 2

## ESD3V3D5-TP
designator D?
TVS DIODE 3.3V 14.1V SOD523; Manufacturer: Micro Commercial Co; Capacitance @ Frequency: 105pF @ 1MHz; Current - Peak Pulse (10/1000µs): 11.2A (8/20µs); Power Line Protection: No; Power - Peak Pulse: 158W; Type: Zener; Unidirectional Channels: 1; Voltage - Breakdown (Min): 5V; Voltage - Reverse Standoff (Typ): 3.3V (Max); Part Number: ESD3V3D5-TP; Applications: General Purpose; ComponentLink1Description: Datasheet; ComponentLink1URL: https://www.mccsemi.com/pdf/Products/ESD3V3D5-ESD12VD5(SOD-523).pdf; ComponentLink2Description: DigiKey Link; ComponentLink2URL: http://digikey.com/product-detail/en/micro-commercial-co/ESD3V3D5-TP/ESD3V3D5-TPMSCT-ND/1777006; LastUpdated: 9/2/2020 1:28:24 AM; Lifecycle Status: Active; Minimum Order: 1; Mounting Type: Surface Mount; Operating Temperature: -55°C ~ 150°C (TJ); Package / Case: SC-79, SOD-523; Packaging: TapeAndReel; PartId: 9751; Part Status: Active; Price: 0.06; Series: -; Supplier 1: DigiKey; Supplier Part Number 1: ESD3V3D5-TPMSCT-ND; Supplier Device Package: SOD-523; Voltage - Clamping (Max) @ Ipp: 14.1V
footprint SOD523F
pins: 1, 2

## ESD3V3D5B-TP
designator D?
TVS DIODE 3.3V 12V SOD523; Manufacturer: Micro Commercial Co; Bidirectional Channels: 1; Capacitance @ Frequency: 16pF @ 1MHz; Current - Peak Pulse (10/1000µs): 8A (8/20µs); Power Line Protection: No; Power - Peak Pulse: 96W; Type: Zener; Voltage - Breakdown (Min): 4.2V; Voltage - Reverse Standoff (Typ): 3.3V (Max); Part Number: ESD3V3D5B-TP; Applications: General Purpose; ComponentLink1Description: Datasheet; ComponentLink1URL: https://www.mccsemi.com/pdf/Products/ESD3V3D5B(SOD-523)-A.pdf; ComponentLink2Description: DigiKey Link; ComponentLink2URL: http://digikey.com/product-detail/en/micro-commercial-co/ESD3V3D5B-TP/ESD3V3D5B-TPMSCT-ND/7681665; LastUpdated: 9/2/2020 1:28:25 AM; Lifecycle Status: Active; Minimum Order: 1; Mounting Type: Surface Mount; Operating Temperature: -55°C ~ 125°C (TJ); Package / Case: SC-79, SOD-523; Packaging: TapeAndReel; PartId: 9815; Part Status: Active; Price: 0.04; Series: -; Supplier 1: DigiKey; Supplier Part Number 1: ESD3V3D5B-TPMSCT-ND; Supplier Device Package: SOD-523; Voltage - Clamping (Max) @ Ipp: 12V
footprint SOD523F
pins: 1, 2

## ESD5B5.0ST1G
designator D?
TVS DIODE 5V SOD523; Manufacturer: ON Semiconductor; Bidirectional Channels: 1; Capacitance @ Frequency: 32pF @ 1MHz; Power Line Protection: No; Power - Peak Pulse: 50W; Type: Zener; Voltage - Breakdown (Min): 5.8V; Voltage - Reverse Standoff (Typ): 5V (Max); Part Number: ESD5B5.0ST1G; Applications: General Purpose; ComponentLink1Description: Datasheet; ComponentLink1URL: http://www.onsemi.com/pub/Collateral/ESD5B5.0ST1-D.PDF; ComponentLink2Description: DigiKey Link; ComponentLink2URL: http://digikey.com/product-detail/en/on-semiconductor/ESD5B5.0ST1G/ESD5B5.0ST1GOSCT-ND/1967042; LastUpdated: 9/2/2020 1:28:25 AM; Lifecycle Status: Active; Minimum Order: 1; Mounting Type: Surface Mount; Operating Temperature: -55°C ~ 150°C (TJ); Package / Case: SC-79, SOD-523; Packaging: TapeAndReel; PartId: 9822; Part Status: Active; Price: 0.04; Series: -; Supplier 1: DigiKey; Supplier Part Number 1: ESD5B5.0ST1GOSCT-ND; Supplier Device Package: SOD-523
footprint SOD523F
pins: 1, 2

## ESD5V0D3-TP
designator D?
TVS DIODE 5V 15.5V SOD323; Manufacturer: Micro Commercial Co; Capacitance @ Frequency: 350pF @ 1MHz; Current - Peak Pulse (10/1000µs): 12A (8/20µs); Power Line Protection: No; Power - Peak Pulse: 350W; Type: Zener; Unidirectional Channels: 1; Voltage - Breakdown (Min): 6.2V; Voltage - Reverse Standoff (Typ): 5V (Max); Part Number: ESD5V0D3-TP; Applications: General Purpose; ComponentLink1Description: Datasheet; ComponentLink1URL: https://www.mccsemi.com/pdf/Products/ESD5V0D3-ESD12VD3(SOD-323).pdf; ComponentLink2Description: DigiKey Link; ComponentLink2URL: http://digikey.com/product-detail/en/micro-commercial-co/ESD5V0D3-TP/ESD5V0D3-TPMSCT-ND/1923300; LastUpdated: 9/2/2020 1:28:27 AM; Lifecycle Status: Active; Minimum Order: 1; Mounting Type: Surface Mount; Operating Temperature: -55°C ~ 150°C (TJ); Package / Case: SC-76, SOD-323; Packaging: TapeAndReel; PartId: 9860; Part Status: Active; Price: 0.06; Series: -; Supplier 1: DigiKey; Supplier Part Number 1: ESD5V0D3-TPMSCT-ND; Supplier Device Package: SOD-323; Voltage - Clamping (Max) @ Ipp: 15.5V
footprint SOD323
pins: 1, 2

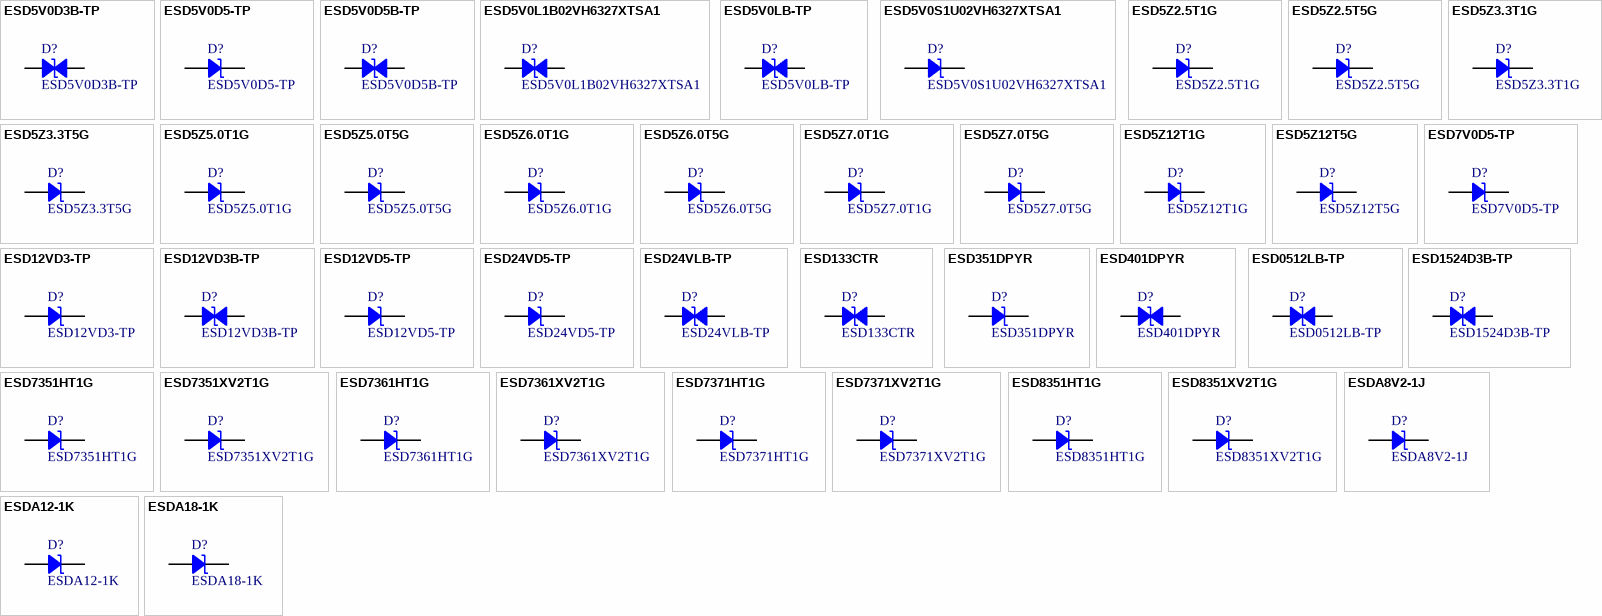
[diagram p24: symbols ESD5V0D3B-TP to ESDA18-1K]

## ESD5V0D3B-TP
designator D?
TVS DIODE 5V 13.5V SOD323; Manufacturer: Micro Commercial Co; Bidirectional Channels: 1; Capacitance @ Frequency: 35pF @ 1MHz; Current - Peak Pulse (10/1000µs): 8A (8/20µs); Power Line Protection: No; Power - Peak Pulse: 500W; Type: Zener; Voltage - Breakdown (Min): 5.8V; Voltage - Reverse Standoff (Typ): 5V (Max); Part Number: ESD5V0D3B-TP; Applications: General Purpose; ComponentLink1Description: Datasheet; ComponentLink1URL: https://www.mccsemi.com/pdf/Products/ESD5V0D3B(SOD-323).pdf; ComponentLink2Description: DigiKey Link; ComponentLink2URL: http://digikey.com/product-detail/en/micro-commercial-co/ESD5V0D3B-TP/ESD5V0D3B-TPMSCT-ND/2213599; LastUpdated: 9/2/2020 1:28:29 AM; Lifecycle Status: Active; Minimum Order: 1; Mounting Type: Surface Mount; Operating Temperature: -55°C ~ 150°C (TJ); Package / Case: SC-76, SOD-323; Packaging: TapeAndReel; PartId: 9960; Part Status: Active; Price: 0.11; Series: -; Supplier 1: DigiKey; Supplier Part Number 1: ESD5V0D3B-TPMSCT-ND; Supplier Device Package: SOD-323; Voltage - Clamping (Max) @ Ipp: 13.5V
footprint SOD323
pins: 1, 2

## ESD5V0D5-TP
designator D?
TVS DIODE 5V 18.6V SOD523; Manufacturer: Micro Commercial Co; Capacitance @ Frequency: 80pF @ 1MHz; Current - Peak Pulse (10/1000µs): 11.6A (8/20µs); Power Line Protection: No; Power - Peak Pulse: 174W; Type: Zener; Unidirectional Channels: 1; Voltage - Breakdown (Min): 6.2V; Voltage - Reverse Standoff (Typ): 5V (Max); Part Number: ESD5V0D5-TP; Applications: General Purpose; ComponentLink1Description: Datasheet; ComponentLink1URL: https://www.mccsemi.com/pdf/Products/ESD3V3D5-ESD12VD5(SOD-523).pdf; ComponentLink2Description: DigiKey Link; ComponentLink2URL: http://digikey.com/product-detail/en/micro-commercial-co/ESD5V0D5-TP/ESD5V0D5-TPMSCT-ND/1777008; LastUpdated: 9/2/2020 1:28:24 AM; Lifecycle Status: Active; Minimum Order: 1; Mounting Type: Surface Mount; Operating Temperature: -55°C ~ 150°C (TJ); Package / Case: SC-79, SOD-523; Packaging: TapeAndReel; PartId: 9752; Part Status: Active; Price: 0.06; Series: -; Supplier 1: DigiKey; Supplier Part Number 1: ESD5V0D5-TPMSCT-ND; Supplier Device Package: SOD-523; Voltage - Clamping (Max) @ Ipp: 18.6V
footprint SOD523F
pins: 1, 2

## ESD5V0D5B-TP
designator D?
TVS DIODE 5V 13V SOD523; Manufacturer: Micro Commercial Co; Bidirectional Channels: 1; Capacitance @ Frequency: 27pF @ 1MHz; Current - Peak Pulse (10/1000µs): 12A; Power Line Protection: No; Power - Peak Pulse: 150W; Type: Zener; Voltage - Breakdown (Min): 5.8V; Voltage - Reverse Standoff (Typ): 5V (Max); Part Number: ESD5V0D5B-TP; Applications: General Purpose; ComponentLink1Description: Datasheet; ComponentLink1URL: https://www.mccsemi.com/pdf/Products/ESD5V0D5B(SOD-523).pdf; ComponentLink2Description: DigiKey Link; ComponentLink2URL: http://digikey.com/product-detail/en/micro-commercial-co/ESD5V0D5B-TP/ESD5V0D5B-TPMSCT-ND/2213600; LastUpdated: 9/2/2020 1:28:25 AM; Lifecycle Status: Active; Minimum Order: 1; Mounting Type: Surface Mount; Operating Temperature: -55°C ~ 150°C (TJ); Package / Case: SC-79, SOD-523; Packaging: TapeAndReel; PartId: 9819; Part Status: Active; Price: 0.10; Series: -; Supplier 1: DigiKey; Supplier Part Number 1: ESD5V0D5B-TPMSCT-ND; Supplier Device Package: SOD-523; Voltage - Clamping (Max) @ Ipp: 13V
footprint SOD523F
pins: 1, 2

## ESD5V0L1B02VH6327XTSA1
designator D?
TVS DIODE 5V 25V SC79-2; Manufacturer: Infineon Technologies; Bidirectional Channels: 1; Capacitance @ Frequency: 8.5pF @ 1MHz; Current - Peak Pulse (10/1000µs): 2.5A (8/20µs); Power Line Protection: No; Type: Zener; Voltage - Breakdown (Min): 7V; Voltage - Clamping (Max) @ Ipp: 25V (Typ); Voltage - Reverse Standoff (Typ): 5V (Max); Part Number: ESD5V0L1B02VH6327XTSA1; Applications: Automotive; ComponentLink1Description: Datasheet; ComponentLink1URL: //media.digikey.com/pdf/Data%20Sheets/Infineon%20PDFs/ESD5V0L1B-02V.pdf; ComponentLink2Description: DigiKey Link; ComponentLink2URL: http://digikey.com/product-detail/en/infineon-technologies/ESD5V0L1B02VH6327XTSA1/ESD5V0L1B02VH6327XTSA1CT-ND/3915421; LastUpdated: 9/2/2020 1:28:25 AM; Lifecycle Status: Active; Minimum Order: 1; Mounting Type: Surface Mount; Operating Temperature: -55°C ~ 125°C (TJ); Package / Case: SC-79, SOD-523; Packaging: TapeAndReel; PartId: 9830; Part Status: Active; Price: 0.06; Series: Automotive, AEC-Q101; Supplier 1: DigiKey; Supplier Part Number 1: ESD5V0L1B02VH6327XTSA1CT-ND; Supplier Device Package: PG-SC79-2
footprint SOD523F
pins: 1, 2

## ESD5V0LB-TP
designator D?
TVS DIODE 5V 16V DFN1006-2; Manufacturer: Micro Commercial Co; Bidirectional Channels: 1; Capacitance @ Frequency: 80pF @ 1MHz; Current - Peak Pulse (10/1000µs): 25A (8/20µs); Power Line Protection: No; Power - Peak Pulse: 400W; Type: Zener; Voltage - Breakdown (Min): 6V; Voltage - Reverse Standoff (Typ): 5V (Max); Part Number: ESD5V0LB-TP; Applications: General Purpose; ComponentLink1Description: Datasheet; ComponentLink1URL: https://www.mccsemi.com/pdf/Products/ESD5V0LB(DFN1006-2)-A.pdf; ComponentLink2Description: DigiKey Link; ComponentLink2URL: http://digikey.com/product-detail/en/micro-commercial-co/ESD5V0LB-TP/ESD5V0LB-TPMSCT-ND/6004815; Device Package: 0402 (1006 Metric); LastUpdated: 9/2/2020 1:28:49 AM; Lifecycle Status: Active; Minimum Order: 1; Mounting Type: Surface Mount; Operating Temperature: -55°C ~ 125°C (TJ); Package / Case: 0402 (1006 Metric); Packaging: TapeAndReel; PartId: 10502; Part Status: Active; Price: 0.03; Series: -; Supplier 1: DigiKey; Supplier Part Number 1: ESD5V0LB-TPMSCT-ND; Supplier Device Package: DFN1006-2; Voltage - Clamping (Max) @ Ipp: 16V
footprint 0402
pins: 1, 2

## ESD5V0S1U02VH6327XTSA1
designator D?
TVS DIODE 5V 14.5V SC79-2; Manufacturer: Infineon Technologies; Capacitance @ Frequency: 35pF @ 1MHz; Current - Peak Pulse (10/1000µs): 5.5A (8/20µs); Power Line Protection: No; Power - Peak Pulse: 66W; Type: Zener; Unidirectional Channels: 1; Voltage - Breakdown (Min): 5.7V; Voltage - Clamping (Max) @ Ipp: 14.5V (Typ); Voltage - Reverse Standoff (Typ): 5V (Max); Part Number: ESD5V0S1U02VH6327XTSA1; Applications: General Purpose; ComponentLink1Description: Datasheet; ComponentLink1URL: //media.digikey.com/pdf/Data%20Sheets/Infineon%20PDFs/ESD5V0S1U-02V.pdf; ComponentLink2Description: DigiKey Link; ComponentLink2URL: http://digikey.com/product-detail/en/infineon-technologies/ESD5V0S1U02VH6327XTSA1/ESD5V0S1U02VH6327XTSA1CT-ND/8416917; LastUpdated: 9/2/2020 1:28:24 AM; Lifecycle Status: Active; Minimum Order: 1; Mounting Type: Surface Mount; Operating Temperature: -55°C ~ 125°C (TJ); Package / Case: SC-79, SOD-523; Packaging: TapeAndReel; PartId: 9784; Part Status: Active; Price: 0.06; Series: -; Supplier 1: DigiKey; Supplier Part Number 1: ESD5V0S1U02VH6327XTSA1CT-ND; Supplier Device Package: PG-SC79-2
footprint SOD523F
pins: 1, 2

## ESD5Z2.5T1G
designator D?
TVS DIODE 2.5V 10.9V SOD523; Manufacturer: ON Semiconductor; Capacitance @ Frequency: 145pF @ 1MHz; Current - Peak Pulse (10/1000µs): 11A (8/20µs); Power Line Protection: No; Power - Peak Pulse: 120W; Type: Zener; Unidirectional Channels: 1; Voltage - Breakdown (Min): 4V; Voltage - Reverse Standoff (Typ): 2.5V (Max); Part Number: ESD5Z2.5T1G; Applications: General Purpose; ComponentLink1Description: Datasheet; ComponentLink1URL: https://www.onsemi.com/pub/Collateral/ESD5Z2.5T1-D.PDF; ComponentLink2Description: DigiKey Link; ComponentLink2URL: http://digikey.com/product-detail/en/on-semiconductor/ESD5Z2.5T1G/ESD5Z2.5T1GOSCT-ND/1967043; LastUpdated: 9/2/2020 1:28:24 AM; Lifecycle Status: Active; Minimum Order: 1; Mounting Type: Surface Mount; Operating Temperature: -55°C ~ 150°C (TJ); Package / Case: SC-79, SOD-523; Packaging: TapeAndReel; PartId: 9809; Part Status: Active; Price: 0.03; Series: -; Supplier 1: DigiKey; Supplier Part Number 1: ESD5Z2.5T1GOSCT-ND; Supplier Device Package: SOD-523; Voltage - Clamping (Max) @ Ipp: 10.9V
footprint SOD523F
pins: 1, 2

## ESD5Z2.5T5G
designator D?
TVS DIODE 2.5V 10.9V SOD523; Manufacturer: ON Semiconductor; Capacitance @ Frequency: 145pF @ 1MHz; Current - Peak Pulse (10/1000µs): 11A (8/20µs); Power Line Protection: No; Power - Peak Pulse: 120W; Type: Zener; Unidirectional Channels: 1; Voltage - Breakdown (Min): 4V; Voltage - Reverse Standoff (Typ): 2.5V (Max); Part Number: ESD5Z2.5T5G; Applications: General Purpose; ComponentLink1Description: Datasheet; ComponentLink1URL: https://www.onsemi.com/pub/Collateral/ESD5Z2.5T1-D.PDF; ComponentLink2Description: DigiKey Link; ComponentLink2URL: http://digikey.com/product-detail/en/on-semiconductor/ESD5Z2.5T5G/ESD5Z2.5T5GOSCT-ND/9086484; LastUpdated: 9/2/2020 1:28:24 AM; Lifecycle Status: Active; Minimum Order: 1; Mounting Type: Surface Mount; Operating Temperature: -55°C ~ 150°C (TJ); Package / Case: SC-79, SOD-523; Packaging: TapeAndReel; PartId: 9792; Part Status: Active; Price: 0.03; Series: -; Supplier 1: DigiKey; Supplier Part Number 1: ESD5Z2.5T5GOSCT-ND; Supplier Device Package: SOD-523; Voltage - Clamping (Max) @ Ipp: 10.9V
footprint SOD523F
pins: 1, 2

## ESD5Z3.3T1G
designator D?
TVS DIODE 3.3V 14.1V SOD523; Manufacturer: ON Semiconductor; Capacitance @ Frequency: 105pF @ 1MHz; Current - Peak Pulse (10/1000µs): 11.2A (8/20µs); Power Line Protection: No; Power - Peak Pulse: 158W; Type: Zener; Unidirectional Channels: 1; Voltage - Breakdown (Min): 5V; Voltage - Reverse Standoff (Typ): 3.3V (Max); Part Number: ESD5Z3.3T1G; Applications: General Purpose; ComponentLink1Description: Datasheet; ComponentLink1URL: https://www.onsemi.com/pub/Collateral/ESD5Z2.5T1-D.PDF; ComponentLink2Description: DigiKey Link; ComponentLink2URL: http://digikey.com/product-detail/en/on-semiconductor/ESD5Z3.3T1G/ESD5Z3.3T1GOSCT-ND/1967044; LastUpdated: 9/2/2020 1:28:24 AM; Lifecycle Status: Active; Minimum Order: 1; Mounting Type: Surface Mount; Operating Temperature: -55°C ~ 150°C (TJ); Package / Case: SC-79, SOD-523; Packaging: TapeAndReel; PartId: 9754; Part Status: Active; Price: 0.04; Series: -; Supplier 1: DigiKey; Supplier Part Number 1: ESD5Z3.3T1GOSCT-ND; Supplier Device Package: SOD-523; Voltage - Clamping (Max) @ Ipp: 14.1V
footprint SOD523F
pins: 1, 2

## ESD5Z3.3T5G
designator D?
TVS DIODE 3.3VWM 14.1VC SOD523; Manufacturer: ON Semiconductor; Capacitance @ Frequency: 105pF @ 1MHz; Current - Peak Pulse (10/1000µs): 11.2A (8/20µs); Power Line Protection: No; Power - Peak Pulse: 158W; Type: Zener; Unidirectional Channels: 1; Voltage - Breakdown (Min): 5V; Voltage - Clamping (Max) @ Ipp: 14.1V; Voltage - Reverse Standoff (Typ): 3.3V (Max); Part Number: ESD5Z3.3T5G; Applications: General Purpose; ComponentLink1Description: Datasheet; ComponentLink1URL: https://www.onsemi.com/pub/Collateral/ESD5Z2.5T1-D.PDF; ComponentLink2Description: DigiKey Link; ComponentLink2URL: http://digikey.com/product-detail/en/on-semiconductor/ESD5Z3.3T5G/ESD5Z3.3T5GOSCT-ND/8538421; LastUpdated: 9/2/2020 1:28:24 AM; Lifecycle Status: Active; Minimum Order: 1; Mounting Type: Surface Mount; Operating Temperature: -55°C ~ 150°C (TJ); Package / Case: SC-79, SOD-523; Packaging: TapeAndReel; PartId: 9806; Part Status: Active; Price: 0.03; Series: -; Supplier 1: DigiKey; Supplier Part Number 1: ESD5Z3.3T5GOSCT-ND; Supplier Device Package: SOD-523
footprint SOD523F
pins: 1, 2